# EAGLE library part 52892-1695 (library molex)
CONNECTOR, FPC, ZIF, 0.50MM, 16 WAY
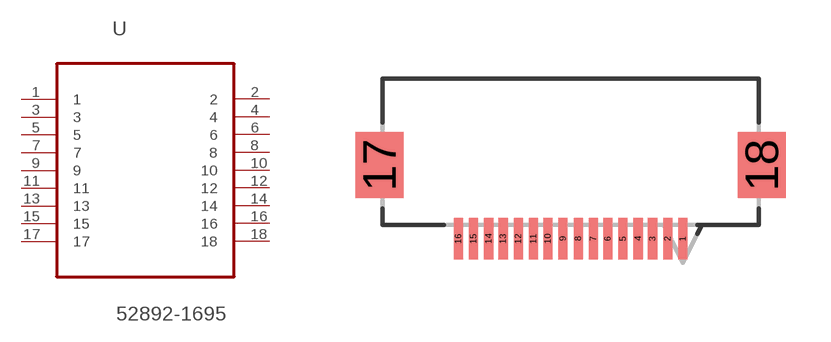
[diagram p31: symbol with the pads of MOLEX_52892-1695; footprint MOLEX_52892-1695]

Designator prefix U

## 52892-1695 (MPN: 52892-1695; OC_FARNELL: 1556807; OC_NEWARK: 92M6601; PACKAGE: CONNECTOR, FPC, ZIF, 0.50MM, 16 WAY; SUPPLIER: Molex)  [MOLEX_52892-1695]
1  1  pas
2  2  pas
3  3  pas
4  4  pas
5  5  pas
6  6  pas
7  7  pas
8  8  pas
9  9  pas
10  10  pas
11  11  pas
12  12  pas
13  13  pas
14  14  pas
15  15  pas
16  16  pas
17  17  pas
18  18  pas

## Footprint MOLEX_52892-1695 (pad centres in mm)
smd 0.305 x 1.397: 1 3.759,2.896; 2 3.251,2.896; 3 2.743,2.896; 4 2.261,2.896; 5 1.753,2.896; 6 1.245,2.896; 7 0.762,2.896; 8 0.254,2.896; 9 -0.254,2.896; 10 -0.762,2.896; 11 -1.245,2.896; 12 -1.753,2.896; 13 -2.261,2.896; 14 -2.743,2.896; 15 -3.251,2.896; 16 -3.759,2.896
smd 1.6 x 2.21: 17 -6.401,5.359; 18 6.401,5.359